# Altium footprint library HI216_V2.PcbLib: 1 footprints
Each footprint in its own frame and in the unit in brackets; x right, y up, seen from the top. Pads: shape width x height; smd on the part's side, far side on the other; paste and mask are expansions set on the pad; w line width, h text height; cw(c..) or ccw(c..) is an arc to the next point about the centre after c.
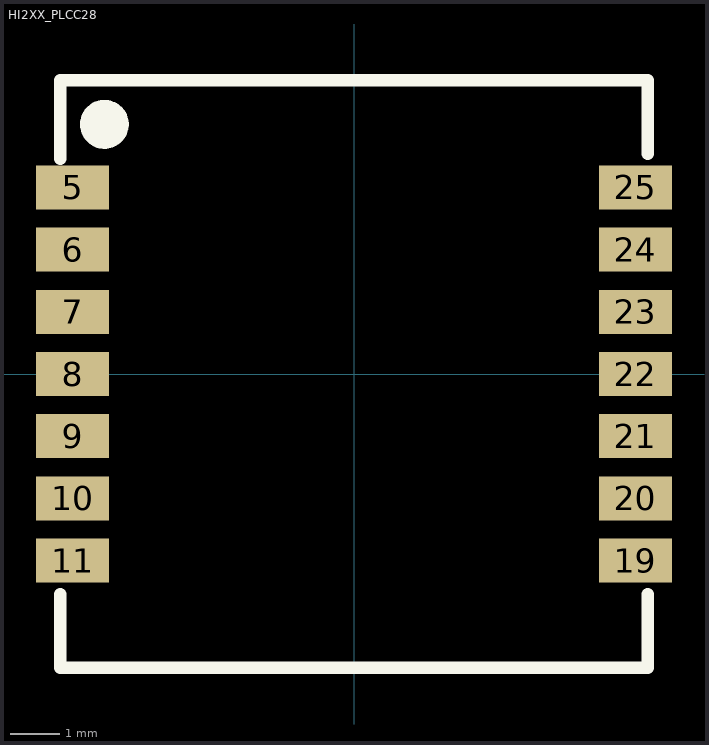
[diagram p0: the footprint, top view; thin cyan lines are the x and y axes]

## HI2XX_PLCC28 [mm]
pads (14):
  rect 1.5x0.9 smd: 5(-5.75,3.81) 6(-5.75,2.54) 7(-5.75,1.27) 8(-5.75,0) 9(-5.75,-1.27) 10(-5.75,-2.54) 11(-5.75,-3.81) 19(5.75,-3.81) 20(5.75,-2.54) 21(5.75,-1.27) 22(5.75,0) 23(5.75,1.27) 24(5.75,2.54) 25(5.75,3.81)
Top Overlay:
  circle w0.5: c-5.1,5.1 r0.25
  lines w0.254: -6,-4.5 -6,-6 -4.5,-6 4.5,-6 6,-6 6,-4.5 ; -6,4.4 -6,6 -5.5,6 4.5,6 6,6 6,4.5